# Altium schematic symbol library Schlib1.SchLib: 1 symbol
Pins are listed as number, name and electrical type; pins without a type are passive.

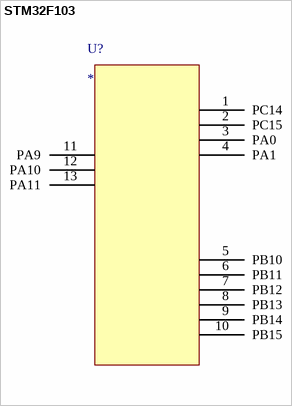
[diagram p0: symbol STM32F103]

## STM32F103
designator U?
pins: 1 PC14, 2 PC15, 3 PA0, 4 PA1, 5 PB10, 6 PB11, 7 PB12, 8 PB13, 9 PB14, 10 PB15, 11 PA9, 12 PA10, 13 PA11